# Altium footprint library ETech PCB Rev 1.0.PcbLib: 102 footprints (part 2 of 7)
Each footprint in its own frame and in the unit in brackets; x right, y up, seen from the top. Pads: shape width x height; smd on the part's side, far side on the other; paste and mask are expansions set on the pad; w line width, h text height; cw(c..) or ccw(c..) is an arc to the next point about the centre after c.
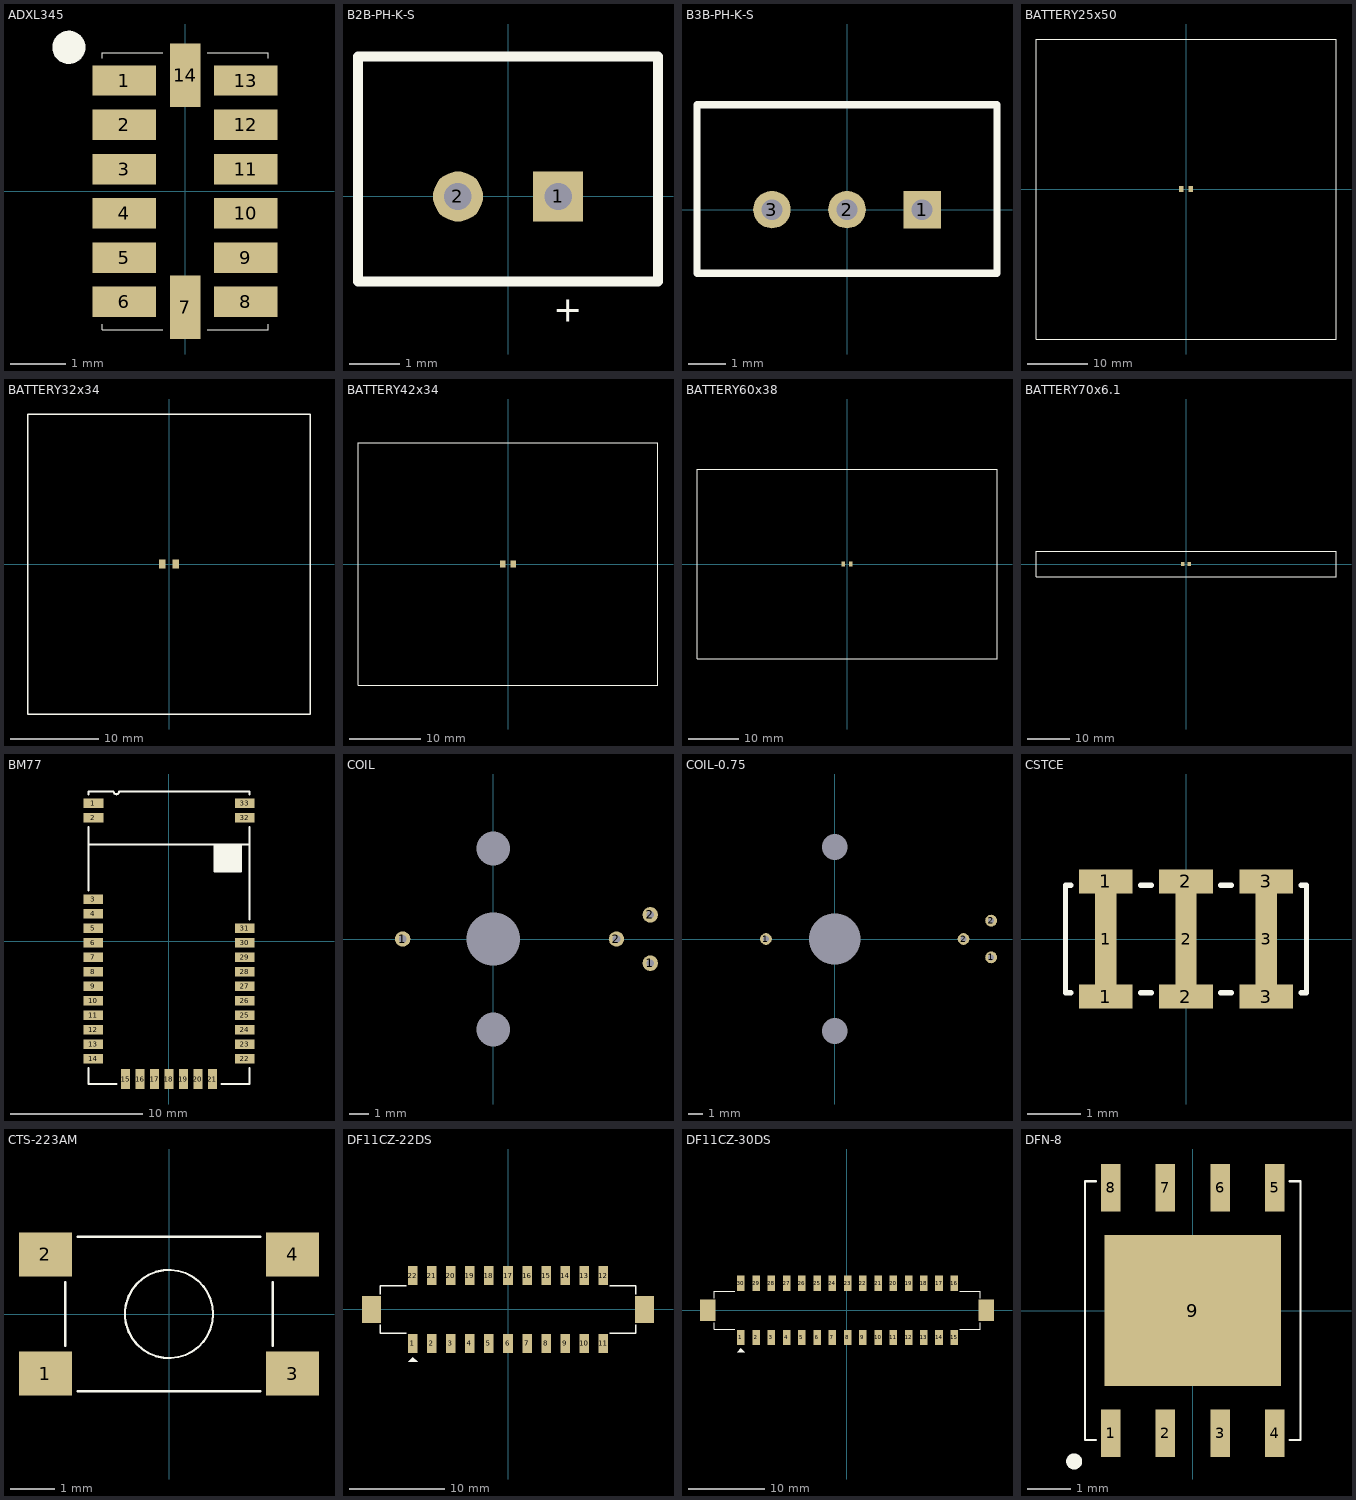
[diagram p1: the footprints below, top view; thin cyan lines are the x and y axes]

## ADXL345 [mm]
height 2.4
pads (14):
  rect 1.145x0.55 smd mask+0.075: 1(-1.098,2) 2(-1.098,1.2) 3(-1.098,0.4) 4(-1.098,-0.4) 5(-1.098,-1.2) 6(-1.098,-2) 8(1.097,-2) 9(1.097,-1.2) 10(1.097,-0.4) 11(1.097,0.4) 12(1.097,1.2) 13(1.097,2)
  rect 0.55x1.145 smd mask+0.075: 7(0,-2.097) 14(0,2.097)
Top Overlay:
  circle w0.3: c-2.1,2.6 r0.15
  lines w0.015: -1.5,-2.4 -1.5,-2.5 -0.4,-2.5 ; -1.5,2.4 -1.5,2.5 -0.4,2.5 ; 0.4,-2.5 1.5,-2.5 1.5,-2.4 ; 0.4,2.5 1.5,2.5 1.5,2.4

## B2B-PH-K-S [mm] "Connector; Header; 2 Position, 1.25mm"
height 3.5
pads (2):
  rect 1x1 hole 0.55: 1(1,0)
  round 1 hole 0.55: 2(-1,0)
Top Overlay:
  lines w0.2: -3,-1.7 3,-1.7 3,2.8 -3,2.8 -3,-1.7
  text "+" at 0.9,-2.5 h0.51

## B3B-PH-K-S [mm] "Connector; Header; 3 Position, 1.25mm"
height 3.5
pads (3):
  rect 1x1 hole 0.55: 1(2,0)
  round 1 hole 0.55: 2(0,0) 3(-2,0)
Top Overlay:
  lines w0.2: -4,-1.7 4,-1.7 4,2.8 -4,2.8 -4,-1.7

## BATTERY25x50 [mil]
height 751.97
pads (2):
  rect 30x40 smd: 1(-30,0) 2(30,0)
Top Overlay:
  lines w6: -984.25,-984.25 -984.25,984.25 984.25,984.25 984.25,-984.25 -984.25,-984.25

## BATTERY32x34 [mil]
height 751.97
pads (2):
  rect 30x40 smd: 1(-30,0) 2(30,0)
Top Overlay:
  lines w6: -629.92,-669.29 -629.92,669.29 629.92,669.29 629.92,-669.29 -629.92,-669.29

## BATTERY42x34 [mil]
height 751.97
pads (2):
  rect 30x40 smd: 1(-30,0) 2(30,0)
Top Overlay:
  lines w6: -826.77,-669.29 826.77,-669.29 826.77,669.29 -826.77,669.29 -826.77,-669.29

## BATTERY60x38 [mil]
height 751.97
pads (2):
  rect 30x40 smd: 1(-30,0) 2(30,0)
Top Overlay:
  lines w6: -1181.1,-748.03 1181.1,-748.03 1181.1,748.03 -1181.1,748.03 -1181.1,-748.03

## BATTERY70x6.1 [mil]
height 751.97
pads (2):
  rect 30x40 smd: 1(-30,0) 2(30,0)
Top Overlay:
  lines w6: -1377.95,-118.11 -1377.95,118.11 1377.95,118.11 1377.95,-118.11 -1377.95,-118.11

## BM77 [mm] "BM77 Module"
height 2
pads (33):
  rect 1.5x0.7 smd: 1(-5.742,10.475) 2(-5.742,9.375) 3(-5.75,3.175) 4(-5.75,2.075) 5(-5.75,0.975) 6(-5.75,-0.125) 7(-5.75,-1.225) 8(-5.75,-2.325) 9(-5.75,-3.425) 10(-5.75,-4.525) 11(-5.75,-5.625) 12(-5.75,-6.725) 13(-5.75,-7.825) 14(-5.75,-8.925) 22(5.75,-8.925) 23(5.75,-7.825) 24(5.75,-6.725) 25(5.75,-5.625) 26(5.75,-4.525) 27(5.75,-3.425) 28(5.75,-2.325) 29(5.75,-1.225) 30(5.75,-0.125) 31(5.75,0.975) 32(5.75,9.375) 33(5.75,10.475)
  rect 0.7x1.5 smd: 15(-3.3,-10.475) 16(-2.2,-10.475) 17(-1.1,-10.475) 18(0,-10.475) 19(1.1,-10.475) 20(2.2,-10.475) 21(3.3,-10.475)
Top Overlay:
  rectangle: 3.45,5.275 5.45,7.325
  lines w0.15: -6.1,-9.646 -6.1,-10.846 -4,-10.846 ; -6.1,3.854 -6.1,8.654 ; -6.1,7.325 6.1,7.325 ; -6.1,11.154 -6.1,11.354 -4.2,11.354 ccw(c-4,11.354) -4,11.154 ccw(c-4,11.354) -3.8,11.354 6.1,11.354 6.1,11.154 ; 3.45,7.325 3.45,5.275 5.45,5.275 5.45,7.325 ; 4,-10.846 6.1,-10.846 6.1,-9.646 ; 6.1,1.654 6.1,8.654

## COIL [mil]
height 31.5
pads (7):
  round 32 hole 16 unplated: 1(-187.5,0) 1(325,-50) 2(255,0) 2(325,50)
  round 50 hole 70 unplated: ""(0,-187.5) ""(0,187.5)
  round 100 hole 110 unplated: ""(0,0)
Bottom Overlay:
  circle w4: c0,0 r150
  circle w4: c0,0 r280

## COIL-0.75 [mil]
height 31.5
pads (7):
  round 32 hole 16 unplated: 1(-187.5,0) 1(425,-50) 2(350,0) 2(425,50)
  round 50 hole 70 unplated: ""(0,-250) ""(0,250)
  round 100 hole 140 unplated: ""(0,0)
Bottom Overlay:
  circle w4: c0,0 r375
  circle w4: c0,0 r150

## CSTCE [mm]
height 1.15
pads (9):
  rect 1x0.45 smd: 1(-1.5,-1.075) 1(-1.5,1.075) 2(0,-1.075) 2(0,1.075) 3(1.5,-1.075) 3(1.5,1.075)
  rect 0.4x2.6 smd: 1(-1.5,0) 2(0,0) 3(1.5,0)
Top Overlay:
  lines w0.1: -2.15,-1 -2.25,-1 -2.25,1 -2.15,1 ; -0.85,-1 -0.65,-1 ; -0.85,1 -0.65,1 ; 0.65,-1 0.85,-1 ; 0.65,1 0.85,1 ; 2.15,-1 2.25,-1 2.25,1 2.15,1

## CTS-223AM [mm]
height 2.4
pads (4):
  rect 1.2x1 smd mask+0.08: 1(-2.8,-1.35) 2(-2.8,1.35) 3(2.8,-1.35) 4(2.8,1.35)
Top Overlay:
  circle w0.05: c0,0 r1
  lines w0.05: -2.35,-0.725 -2.35,0.725 ; -2.075,-1.75 2.075,-1.75 ; -2.075,1.75 2.075,1.75 ; 2.35,-0.725 2.35,0.725

## DF11CZ-22DS [mm]
height 1.1
pads (24):
  rect 1x2 smd: 1(-10,-3.55) 2(-8,-3.55) 3(-6,-3.55) 4(-4,-3.55) 5(-2,-3.55) 6(0,-3.55) 7(2,-3.55) 8(4,-3.55) 9(6,-3.55) 10(8,-3.55) 11(10,-3.55) 12(10,3.55) 13(8,3.55) 14(6,3.55) 15(4,3.55) 16(2,3.55) 17(0,3.55) 18(-2,3.55) 19(-4,3.55) 20(-6,3.55) 21(-8,3.55) 22(-10,3.55)
  rect 2x2.8 smd: ""(-14.35,0) ""(14.35,0)
Top Overlay:
  region: -10,-5 -10.5,-5.5 -9.5,-5.5
  lines w0.15: -13.4,-1.6 -13.4,-2.5 -10.7,-2.5 ; -13.4,1.6 -13.4,2.5 -10.7,2.5 ; 10.7,-2.5 13.4,-2.5 13.4,-1.6 ; 10.7,2.5 13.4,2.5 13.4,1.6

## DF11CZ-30DS [mm]
height 1.1
pads (32):
  rect 1x2 smd: 1(-13.925,-3.55) 2(-11.925,-3.55) 3(-9.925,-3.55) 4(-7.925,-3.55) 5(-5.925,-3.55) 6(-3.925,-3.55) 7(-1.925,-3.55) 8(0.075,-3.55) 9(2.075,-3.55) 10(4.075,-3.55) 11(6.075,-3.55) 12(8.075,-3.55) 13(10.075,-3.55) 14(12.075,-3.55) 15(14.075,-3.55) 16(14.075,3.55) 17(12.075,3.55) 18(10.075,3.55) 19(8.075,3.55) 20(6.075,3.55) 21(4.075,3.55) 22(2.075,3.55) 23(0.075,3.55) 24(-1.925,3.55) 25(-3.925,3.55) 26(-5.925,3.55) 27(-7.925,3.55) 28(-9.925,3.55) 29(-11.925,3.55) 30(-13.925,3.55)
  rect 2x2.8 smd: ""(-18.275,0) ""(18.275,0)
Top Overlay:
  region: -13.925,-5 -14.425,-5.5 -13.425,-5.5
  lines w0.15: -17.4,-1.6 -17.4,-2.5 -14.7,-2.5 ; -17.4,1.6 -17.4,2.5 -14.7,2.5 ; 14.8,-2.5 17.5,-2.5 17.5,-1.6 ; 14.8,2.5 17.5,2.5 17.5,1.6

## DFN-8 [mm]
height 2.4
pads (9):
  rect 0.45x1.1 smd mask+0.08: 1(-1.905,-2.85) 2(-0.635,-2.85) 3(0.635,-2.85) 4(1.905,-2.85) 5(1.905,2.85) 6(0.635,2.85) 7(-0.635,2.85) 8(-1.905,2.85)
  rect 4.1x3.5 smd: 9(0,0)
Top Overlay:
  circle w0.25: c-2.75,-3.5 r0.06
  lines w0.05: -2.25,-3 -2.5,-3 -2.5,3 -2.25,3 ; 2.25,-3 2.5,-3 2.5,3 2.25,3